# EAGLE library part HFBR15X5 (library opto-transmittter-hp)
OPTO TRANSMITTER
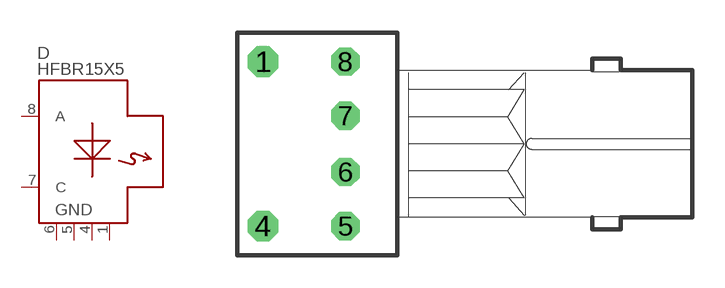
[diagram p1: symbol with the pads of HFBR-ST; footprint HFBR-ST]

Designator prefix D

## HFBR15X5 (MF: AGILENT TECHNOLOGIES; MPN: HFBR-1515BZ; OC_FARNELL: 1247636; OC_NEWARK: 74K5147)  [HFBR-ST]
1  1  pas
4  4  pas
5  GND  pas
6  GND  pas
7  C  out
8  A  out

## Footprint HFBR-ST (pad centres in mm)
OPTO TRANSMITTER
drill 0.9 octagon: 1 -2.5,3.8; 4 -2.5,-3.8
drill 0.8 octagon: 5 1.3,-3.8; 6 1.3,-1.3; 7 1.3,1.3; 8 1.3,3.8